# EAGLE library part CORESIGHT-JTAG-10 (library power_distribution)
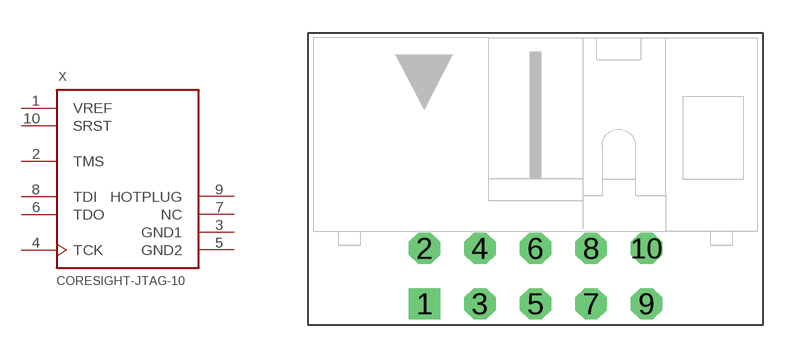
[diagram p10: symbol with the pads of ML10R; footprint ML10R]

Designator prefix X

## CORESIGHT-JTAG-10THD10R (MF: Würth Elektronik; MPN: 61201021721)  [ML10R]
1  VREF
2  TMS
3  GND1
4  TCK
5  GND2
6  TDO  in
7  NC
8  TDI  out
9  HOTPLUG
10  SRST  out

## Footprint ML10R (pad centres in mm)
HARTING AVR ISP 10 Pin, 0.1" Right Angle
drill 0.914 square: 1 -5.08,-1.27
drill 0.914 octagon: 2 -5.08,1.27; 3 -2.54,-1.27; 4 -2.54,1.27; 5 0,-1.27; 6 0,1.27; 7 2.54,-1.27; 8 2.54,1.27; 9 5.08,-1.27; 10 5.08,1.27